# Altium footprint library Maxim Sensors.PcbLib: 239 footprints (part 2 of 15)
Each footprint in its own frame and in the unit in brackets; x right, y up, seen from the top. Pads: shape width x height; smd on the part's side, far side on the other; paste and mask are expansions set on the pad; w line width, h text height; cw(c..) or ccw(c..) is an arc to the next point about the centre after c.
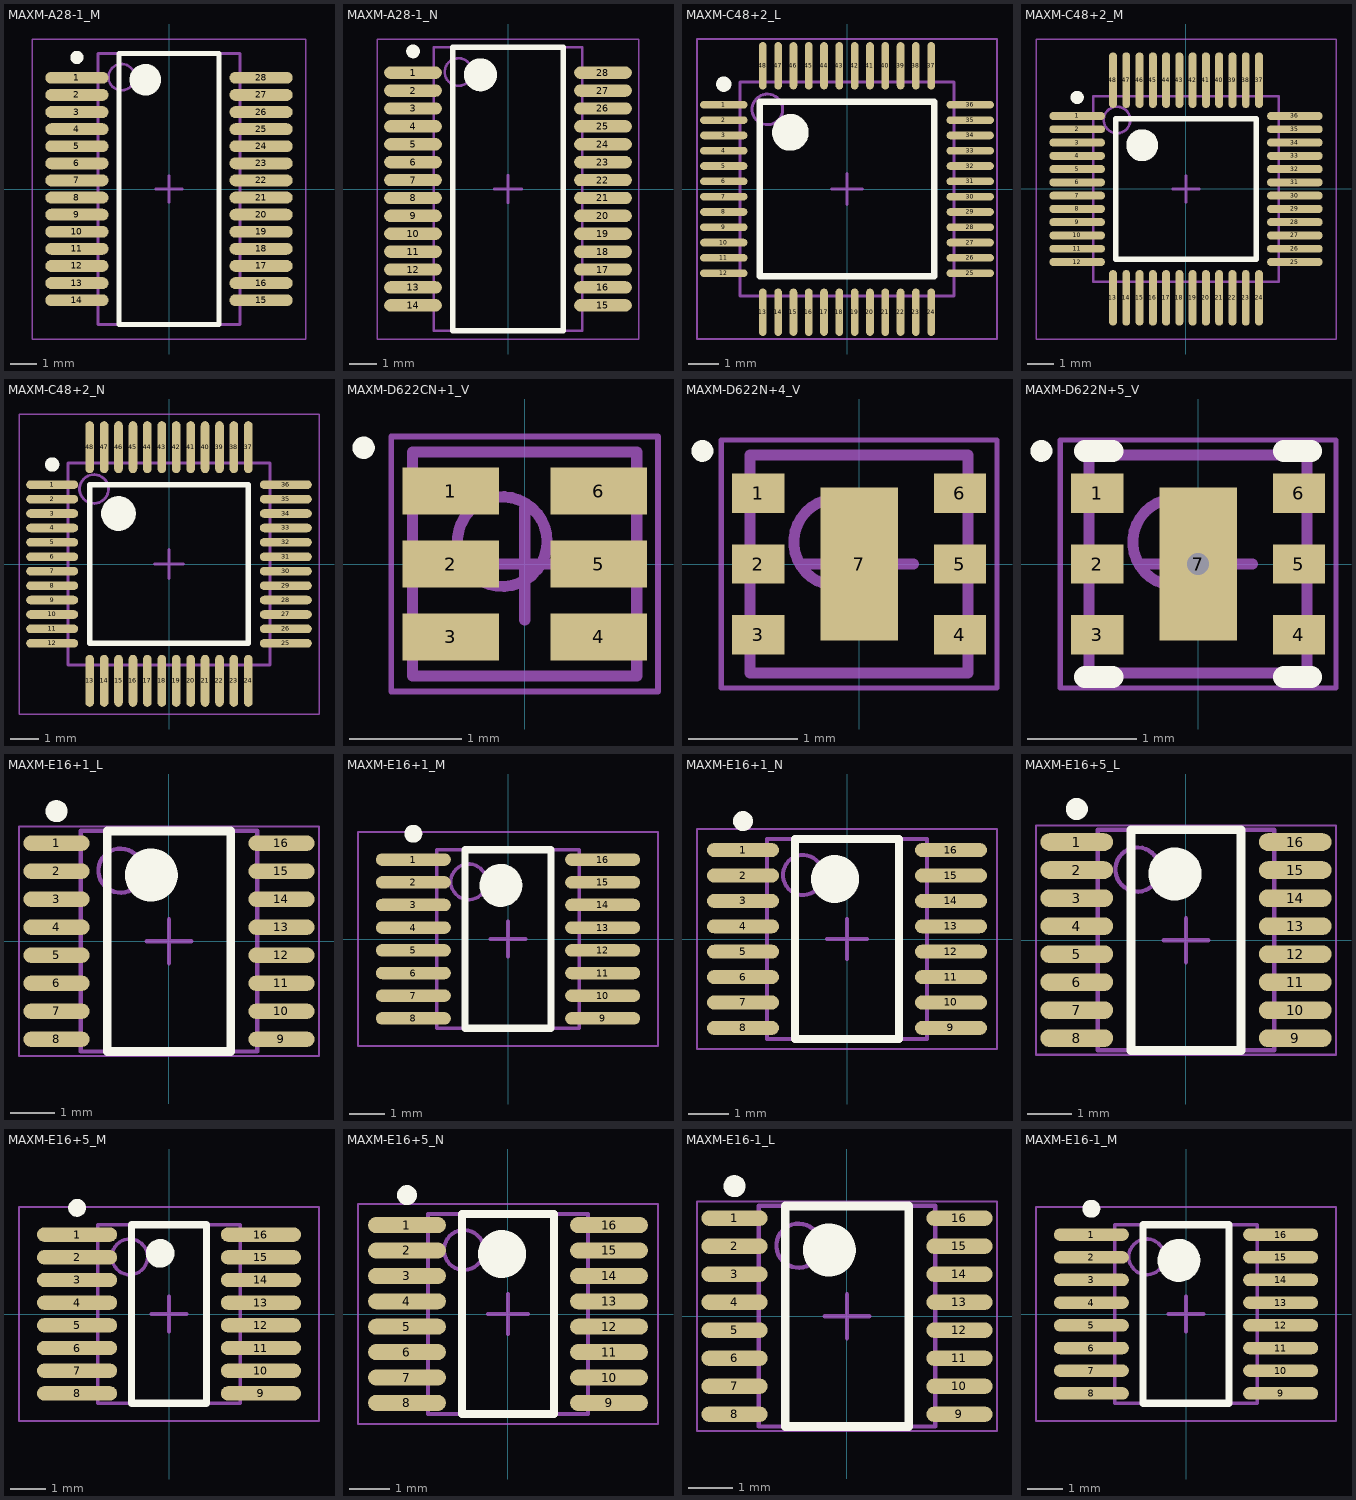
[diagram p1: the footprints below, top view; thin cyan lines are the x and y axes]

## MAXM-A28-1_M [mm] "SOP, 28-Leads, Body 10.2x5.29mm, Pitch 0.65mm, IPC Low Density"
height 1.99
pads (28):
  oval 2.4x0.45 smd: 1(-3.5,4.225) 2(-3.5,3.575) 3(-3.5,2.925) 4(-3.5,2.275) 5(-3.5,1.625) 6(-3.5,0.975) 7(-3.5,0.325) 8(-3.5,-0.325) 9(-3.5,-0.975) 10(-3.5,-1.625) 11(-3.5,-2.275) 12(-3.5,-2.925) 13(-3.5,-3.575) 14(-3.5,-4.225) 15(3.5,-4.225) 16(3.5,-3.575) 17(3.5,-2.925) 18(3.5,-2.275) 19(3.5,-1.625) 20(3.5,-0.975) 21(3.5,-0.325) 22(3.5,0.325) 23(3.5,0.975) 24(3.5,1.625) 25(3.5,2.275) 26(3.5,2.925) 27(3.5,3.575) 28(3.5,4.225)
Top Overlay:
  circle w0.25: c-3.5,5 r0.125
  circle w0.6: c-0.9,4.15 r0.3
  lines w0.2: -1.9,-5.15 -1.9,5.15 1.9,5.15 1.9,-5.15 -1.9,-5.15
Mechanical 13:
  circle w0.1: c-1.8,4.25 r0.5
  lines w0.1: -2.7,-5.15 -2.7,5.15 2.7,5.15 2.7,-5.15 -2.7,-5.15
Mechanical 15:
  lines w0.05: -5.2,-5.7 -5.2,5.7 5.2,5.7 5.2,-5.7 -5.2,-5.7
  lines w0.1: -0.5,0 0.5,0 ; 0,-0.5 0,0.5
3D body: height 1.99, standoff 0.05, extent -2.7,-5.15 2.7,5.15

## MAXM-A28-1_N [mm] "SOP, 28-Leads, Body 10.2x5.29mm, Pitch 0.65mm, IPC Medium Density"
height 1.99
pads (28):
  oval 2.1x0.45 smd: 1(-3.45,4.225) 2(-3.45,3.575) 3(-3.45,2.925) 4(-3.45,2.275) 5(-3.45,1.625) 6(-3.45,0.975) 7(-3.45,0.325) 8(-3.45,-0.325) 9(-3.45,-0.975) 10(-3.45,-1.625) 11(-3.45,-2.275) 12(-3.45,-2.925) 13(-3.45,-3.575) 14(-3.45,-4.225) 15(3.45,-4.225) 16(3.45,-3.575) 17(3.45,-2.925) 18(3.45,-2.275) 19(3.45,-1.625) 20(3.45,-0.975) 21(3.45,-0.325) 22(3.45,0.325) 23(3.45,0.975) 24(3.45,1.625) 25(3.45,2.275) 26(3.45,2.925) 27(3.45,3.575) 28(3.45,4.225)
Top Overlay:
  circle w0.25: c-3.45,5 r0.125
  circle w0.6: c-1,4.15 r0.3
  lines w0.2: -2,-5.15 -2,5.15 2,5.15 2,-5.15 -2,-5.15
Mechanical 13:
  circle w0.1: c-1.8,4.25 r0.5
  lines w0.1: -2.7,-5.15 -2.7,5.15 2.7,5.15 2.7,-5.15 -2.7,-5.15
Mechanical 15:
  lines w0.05: -4.75,-5.45 -4.75,5.45 4.75,5.45 4.75,-5.45 -4.75,-5.45
  lines w0.1: -0.5,0 0.5,0 ; 0,-0.5 0,0.5
3D body: height 1.99, standoff 0.05, extent -2.7,-5.15 2.7,5.15

## MAXM-C48+2_L [mm] "QFP, 48-Leads, Body 7x7mm, Pitch 0.5mm, IPC High Density"
height 1.6
pads (48):
  oval 1.55x0.25 smd: 1(-4.025,2.75) 2(-4.025,2.25) 3(-4.025,1.75) 4(-4.025,1.25) 5(-4.025,0.75) 6(-4.025,0.25) 7(-4.025,-0.25) 8(-4.025,-0.75) 9(-4.025,-1.25) 10(-4.025,-1.75) 11(-4.025,-2.25) 12(-4.025,-2.75) 25(4.025,-2.75) 26(4.025,-2.25) 27(4.025,-1.75) 28(4.025,-1.25) 29(4.025,-0.75) 30(4.025,-0.25) 31(4.025,0.25) 32(4.025,0.75) 33(4.025,1.25) 34(4.025,1.75) 35(4.025,2.25) 36(4.025,2.75)
  oval 0.25x1.55 smd: 13(-2.75,-4.025) 14(-2.25,-4.025) 15(-1.75,-4.025) 16(-1.25,-4.025) 17(-0.75,-4.025) 18(-0.25,-4.025) 19(0.25,-4.025) 20(0.75,-4.025) 21(1.25,-4.025) 22(1.75,-4.025) 23(2.25,-4.025) 24(2.75,-4.025) 37(2.75,4.025) 38(2.25,4.025) 39(1.75,4.025) 40(1.25,4.025) 41(0.75,4.025) 42(0.25,4.025) 43(-0.25,4.025) 44(-0.75,4.025) 45(-1.25,4.025) 46(-1.75,4.025) 47(-2.25,4.025) 48(-2.75,4.025)
Top Overlay:
  circle w0.6: c-1.85,1.85 r0.3
  circle w0.25: c-4.025,3.425 r0.125
  lines w0.2: -2.85,-2.85 2.85,-2.85 2.85,2.85 -2.85,2.85 -2.85,-2.85
Mechanical 13:
  circle w0.1: c-2.6,2.6 r0.5
  lines w0.1: -3.5,-3.5 3.5,-3.5 3.5,3.5 -3.5,3.5 -3.5,-3.5
Mechanical 15:
  lines w0.05: -4.9,-4.9 4.9,-4.9 4.9,4.9 -4.9,4.9 -4.9,-4.9
  lines w0.1: -0.5,0 0.5,0 ; 0,-0.5 0,0.5
3D body: height 1.6, standoff 0.05, extent -3.5,-3.5 3.5,3.5

## MAXM-C48+2_M [mm] "QFP, 48-Leads, Body 7x7mm, Pitch 0.5mm, IPC Low Density"
height 1.6
pads (48):
  oval 2.1x0.3 smd: 1(-4.1,2.75) 2(-4.1,2.25) 3(-4.1,1.75) 4(-4.1,1.25) 5(-4.1,0.75) 6(-4.1,0.25) 7(-4.1,-0.25) 8(-4.1,-0.75) 9(-4.1,-1.25) 10(-4.1,-1.75) 11(-4.1,-2.25) 12(-4.1,-2.75) 25(4.1,-2.75) 26(4.1,-2.25) 27(4.1,-1.75) 28(4.1,-1.25) 29(4.1,-0.75) 30(4.1,-0.25) 31(4.1,0.25) 32(4.1,0.75) 33(4.1,1.25) 34(4.1,1.75) 35(4.1,2.25) 36(4.1,2.75)
  oval 0.3x2.1 smd: 13(-2.75,-4.1) 14(-2.25,-4.1) 15(-1.75,-4.1) 16(-1.25,-4.1) 17(-0.75,-4.1) 18(-0.25,-4.1) 19(0.25,-4.1) 20(0.75,-4.1) 21(1.25,-4.1) 22(1.75,-4.1) 23(2.25,-4.1) 24(2.75,-4.1) 37(2.75,4.1) 38(2.25,4.1) 39(1.75,4.1) 40(1.25,4.1) 41(0.75,4.1) 42(0.25,4.1) 43(-0.25,4.1) 44(-0.75,4.1) 45(-1.25,4.1) 46(-1.75,4.1) 47(-2.25,4.1) 48(-2.75,4.1)
Top Overlay:
  circle w0.6: c-1.65,1.65 r0.3
  circle w0.25: c-4.1,3.45 r0.125
  lines w0.2: -2.65,-2.65 2.65,-2.65 2.65,2.65 -2.65,2.65 -2.65,-2.65
Mechanical 13:
  circle w0.1: c-2.6,2.6 r0.5
  lines w0.1: -3.5,-3.5 3.5,-3.5 3.5,3.5 -3.5,3.5 -3.5,-3.5
Mechanical 15:
  lines w0.05: -5.65,-5.65 5.65,-5.65 5.65,5.65 -5.65,5.65 -5.65,-5.65
  lines w0.1: -0.5,0 0.5,0 ; 0,-0.5 0,0.5
3D body: height 1.6, standoff 0.05, extent -3.5,-3.5 3.5,3.5

## MAXM-C48+2_N [mm] "QFP, 48-Leads, Body 7x7mm, Pitch 0.5mm, IPC Medium Density"
height 1.6
pads (48):
  oval 1.8x0.3 smd: 1(-4.05,2.75) 2(-4.05,2.25) 3(-4.05,1.75) 4(-4.05,1.25) 5(-4.05,0.75) 6(-4.05,0.25) 7(-4.05,-0.25) 8(-4.05,-0.75) 9(-4.05,-1.25) 10(-4.05,-1.75) 11(-4.05,-2.25) 12(-4.05,-2.75) 25(4.05,-2.75) 26(4.05,-2.25) 27(4.05,-1.75) 28(4.05,-1.25) 29(4.05,-0.75) 30(4.05,-0.25) 31(4.05,0.25) 32(4.05,0.75) 33(4.05,1.25) 34(4.05,1.75) 35(4.05,2.25) 36(4.05,2.75)
  oval 0.3x1.8 smd: 13(-2.75,-4.05) 14(-2.25,-4.05) 15(-1.75,-4.05) 16(-1.25,-4.05) 17(-0.75,-4.05) 18(-0.25,-4.05) 19(0.25,-4.05) 20(0.75,-4.05) 21(1.25,-4.05) 22(1.75,-4.05) 23(2.25,-4.05) 24(2.75,-4.05) 37(2.75,4.05) 38(2.25,4.05) 39(1.75,4.05) 40(1.25,4.05) 41(0.75,4.05) 42(0.25,4.05) 43(-0.25,4.05) 44(-0.75,4.05) 45(-1.25,4.05) 46(-1.75,4.05) 47(-2.25,4.05) 48(-2.75,4.05)
Top Overlay:
  circle w0.6: c-1.75,1.75 r0.3
  circle w0.25: c-4.05,3.45 r0.125
  lines w0.2: -2.75,-2.75 2.75,-2.75 2.75,2.75 -2.75,2.75 -2.75,-2.75
Mechanical 13:
  circle w0.1: c-2.6,2.6 r0.5
  lines w0.1: -3.5,-3.5 3.5,-3.5 3.5,3.5 -3.5,3.5 -3.5,-3.5
Mechanical 15:
  lines w0.05: -5.2,-5.2 5.2,-5.2 5.2,5.2 -5.2,5.2 -5.2,-5.2
  lines w0.1: -0.5,0 0.5,0 ; 0,-0.5 0,0.5
3D body: height 1.6, standoff 0.05, extent -3.5,-3.5 3.5,3.5

## MAXM-D622CN+1_V [mm] "SON, 6-Leads, Body 2x2mm, Pitch 0.65mm"
height 0.65
pads (6):
  rect 0.86x0.42 smd mask+0.102: 1(-0.66,0.65) 2(-0.66,0) 3(-0.66,-0.65) 4(0.66,-0.65) 5(0.66,0)
  rect 0.86x0.42 smd paste+0 mask+0.102: 6(0.66,0.65)
Top Overlay:
  circle w0.1: c-1.438,1.038 r0.05
Mechanical 13:
  circle w0.1: c-0.2,0.2 r0.4
  lines w0.1: -1,-1 1,-1 1,1 -1,1 -1,-1
Mechanical 15:
  lines w0.05: -1.19,-1.137 1.19,-1.137 1.19,1.138 -1.19,1.138 -1.19,-1.137
  lines w0.1: -0.5,0 0.5,0 ; 0,-0.5 0,0.5
3D body: height 0.65, standoff 0, extent -1,-1 1,1

## MAXM-D622N+4_V [mm] "SON, 6-Leads, Body 2x2mm, Pitch 0.65mm, Thermal Pad 0.65x1.35mm"
height 0.65
pads (7):
  rect 0.48x0.36 smd: 1(-0.925,0.65) 2(-0.925,0) 3(-0.925,-0.65) 4(0.925,-0.65) 5(0.925,0) 6(0.925,0.65)
  rect 0.71x1.4 smd: 7(0,0)
Top Overlay:
  circle w0.1: c-1.438,1.038 r0.05
Mechanical 13:
  circle w0.1: c-0.2,0.2 r0.4
  lines w0.1: -1,-1 1,-1 1,1 -1,1 -1,-1
Mechanical 15:
  lines w0.05: -1.265,-1.137 1.265,-1.137 1.265,1.138 -1.265,1.138 -1.265,-1.137
  lines w0.1: -0.5,0 0.5,0 ; 0,-0.5 0,0.5
3D body: height 0.65, standoff 0, extent -1,-1 1,1

## MAXM-D622N+5_V [mm] "SON, 6-Leads, Body 2x2mm, Pitch 0.65mm, Thermal Pad 1.35X0.65mm"
height 0.65
pads (7):
  rect 0.48x0.36 smd: 1(-0.925,0.65) 2(-0.925,0) 3(-0.925,-0.65) 4(0.925,-0.65) 5(0.925,0) 6(0.925,0.65)
  rect 0.71x1.4 smd: 7(0,0)
via 0,0 diameter 0.5 hole 0.2
Top Overlay:
  circle w0.1: c-1.438,1.038 r0.05
  lines w0.2: -1.037,-1.037 -0.785,-1.037 ; -1.037,1.038 -0.785,1.038 ; 0.785,-1.037 1.038,-1.037 ; 0.785,1.038 1.038,1.038
Mechanical 13:
  circle w0.1: c-0.2,0.2 r0.4
  lines w0.1: -1,-1 1,-1 1,1 -1,1 -1,-1
Mechanical 15:
  lines w0.05: -1.265,-1.137 1.265,-1.137 1.265,1.138 -1.265,1.138 -1.265,-1.137
  lines w0.1: -0.5,0 0.5,0 ; 0,-0.5 0,0.5
3D body: height 0.65, standoff 0, extent -1,-1 1,1

## MAXM-E16+1_L [mm] "SOP, 16-Leads, Body 4.9x3.89mm, Pitch 0.635mm, IPC High Density"
height 1.75
pads (16):
  oval 1.5x0.35 smd: 1(-2.55,2.222) 2(-2.55,1.587) 3(-2.55,0.953) 4(-2.55,0.318) 5(-2.55,-0.318) 6(-2.55,-0.953) 7(-2.55,-1.587) 8(-2.55,-2.222) 9(2.55,-2.222) 10(2.55,-1.587) 11(2.55,-0.953) 12(2.55,-0.318) 13(2.55,0.318) 14(2.55,0.953) 15(2.55,1.587) 16(2.55,2.222)
Top Overlay:
  circle w0.25: c-2.55,2.947 r0.125
  circle w0.6: c-0.4,1.5 r0.3
  lines w0.2: -1.4,-2.5 -1.4,2.5 1.4,2.5 1.4,-2.5 -1.4,-2.5
Mechanical 13:
  circle w0.1: c-1.1,1.6 r0.5
  lines w0.1: -2,-2.5 -2,2.5 2,2.5 2,-2.5 -2,-2.5
Mechanical 15:
  lines w0.05: -3.4,-2.6 -3.4,2.6 3.4,2.6 3.4,-2.6 -3.4,-2.6
  lines w0.1: -0.5,0 0.5,0 ; 0,-0.5 0,0.5
3D body: height 1.75, standoff 0.1, extent -2,-2.5 2,2.5

## MAXM-E16+1_M [mm] "SOP, 16-Leads, Body 4.9x3.89mm, Pitch 0.635mm, IPC Low Density"
height 1.75
pads (16):
  oval 2.1x0.35 smd: 1(-2.65,2.222) 2(-2.65,1.587) 3(-2.65,0.953) 4(-2.65,0.318) 5(-2.65,-0.318) 6(-2.65,-0.953) 7(-2.65,-1.587) 8(-2.65,-2.222) 9(2.65,-2.222) 10(2.65,-1.587) 11(2.65,-0.953) 12(2.65,-0.318) 13(2.65,0.318) 14(2.65,0.953) 15(2.65,1.587) 16(2.65,2.222)
Top Overlay:
  circle w0.25: c-2.65,2.947 r0.125
  circle w0.6: c-0.2,1.5 r0.3
  lines w0.2: -1.2,-2.5 -1.2,2.5 1.2,2.5 1.2,-2.5 -1.2,-2.5
Mechanical 13:
  circle w0.1: c-1.1,1.6 r0.5
  lines w0.1: -2,-2.5 -2,2.5 2,2.5 2,-2.5 -2,-2.5
Mechanical 15:
  lines w0.05: -4.2,-3 -4.2,3 4.2,3 4.2,-3 -4.2,-3
  lines w0.1: -0.5,0 0.5,0 ; 0,-0.5 0,0.5
3D body: height 1.75, standoff 0.1, extent -2,-2.5 2,2.5

## MAXM-E16+1_N [mm] "SOP, 16-Leads, Body 4.9x3.89mm, Pitch 0.635mm, IPC Medium Density"
height 1.75
pads (16):
  oval 1.8x0.35 smd: 1(-2.6,2.222) 2(-2.6,1.587) 3(-2.6,0.953) 4(-2.6,0.318) 5(-2.6,-0.318) 6(-2.6,-0.953) 7(-2.6,-1.587) 8(-2.6,-2.222) 9(2.6,-2.222) 10(2.6,-1.587) 11(2.6,-0.953) 12(2.6,-0.318) 13(2.6,0.318) 14(2.6,0.953) 15(2.6,1.587) 16(2.6,2.222)
Top Overlay:
  circle w0.25: c-2.6,2.947 r0.125
  circle w0.6: c-0.3,1.5 r0.3
  lines w0.2: -1.3,-2.5 -1.3,2.5 1.3,2.5 1.3,-2.5 -1.3,-2.5
Mechanical 13:
  circle w0.1: c-1.1,1.6 r0.5
  lines w0.1: -2,-2.5 -2,2.5 2,2.5 2,-2.5 -2,-2.5
Mechanical 15:
  lines w0.05: -3.75,-2.75 -3.75,2.75 3.75,2.75 3.75,-2.75 -3.75,-2.75
  lines w0.1: -0.5,0 0.5,0 ; 0,-0.5 0,0.5
3D body: height 1.75, standoff 0.1, extent -2,-2.5 2,2.5

## MAXM-E16+5_L [mm] "SOP, 16-Leads, Body 4.89x3.9mm, Pitch 0.635mm, IPC High Density"
height 1.75
pads (16):
  oval 1.65x0.4 smd: 1(-2.475,2.222) 2(-2.475,1.587) 3(-2.475,0.953) 4(-2.475,0.318) 5(-2.475,-0.318) 6(-2.475,-0.953) 7(-2.475,-1.587) 8(-2.475,-2.222) 9(2.475,-2.222) 10(2.475,-1.587) 11(2.475,-0.953) 12(2.475,-0.318) 13(2.475,0.318) 14(2.475,0.953) 15(2.475,1.587) 16(2.475,2.222)
Top Overlay:
  circle w0.6: c-0.25,1.5 r0.3
  circle w0.25: c-2.475,2.973 r0.125
  lines w0.2: -1.25,-2.5 1.25,-2.5 1.25,2.5 -1.25,2.5 -1.25,-2.5
Mechanical 13:
  circle w0.1: c-1.1,1.6 r0.5
  lines w0.1: -2,-2.5 2,-2.5 2,2.5 -2,2.5 -2,-2.5
Mechanical 15:
  lines w0.05: -3.4,-2.6 3.4,-2.6 3.4,2.6 -3.4,2.6 -3.4,-2.6
  lines w0.1: -0.5,0 0.5,0 ; 0,-0.5 0,0.5
3D body: height 1.75, standoff 0.1, extent -2,-2.5 2,2.5

## MAXM-E16+5_M [mm] "SOP, 16-Leads, Body 4.89x3.9mm, Pitch 0.635mm, IPC Low Density"
height 1.75
pads (16):
  oval 2.25x0.4 smd: 1(-2.575,2.222) 2(-2.575,1.587) 3(-2.575,0.953) 4(-2.575,0.318) 5(-2.575,-0.318) 6(-2.575,-0.953) 7(-2.575,-1.587) 8(-2.575,-2.222) 9(2.575,-2.222) 10(2.575,-1.587) 11(2.575,-0.953) 12(2.575,-0.318) 13(2.575,0.318) 14(2.575,0.953) 15(2.575,1.587) 16(2.575,2.222)
Top Overlay:
  circle w0.25: c-2.575,2.973 r0.125
  circle w0.4: c-0.25,1.7 r0.2
  lines w0.2: -1.05,-2.5 -1.05,2.5 1.05,2.5 1.05,-2.5 -1.05,-2.5
Mechanical 13:
  circle w0.1: c-1.1,1.6 r0.5
  lines w0.1: -2,-2.5 -2,2.5 2,2.5 2,-2.5 -2,-2.5
Mechanical 15:
  lines w0.05: -4.2,-3 -4.2,3 4.2,3 4.2,-3 -4.2,-3
  lines w0.1: -0.5,0 0.5,0 ; 0,-0.5 0,0.5
3D body: height 1.75, standoff 0.1, extent -2,-2.5 2,2.5

## MAXM-E16+5_N [mm] "SOP, 16-Leads, Body 4.89x3.9mm, Pitch 0.635mm, IPC Medium Density"
height 1.75
pads (16):
  oval 1.95x0.4 smd: 1(-2.525,2.222) 2(-2.525,1.587) 3(-2.525,0.953) 4(-2.525,0.318) 5(-2.525,-0.318) 6(-2.525,-0.953) 7(-2.525,-1.587) 8(-2.525,-2.222) 9(2.525,-2.222) 10(2.525,-1.587) 11(2.525,-0.953) 12(2.525,-0.318) 13(2.525,0.318) 14(2.525,0.953) 15(2.525,1.587) 16(2.525,2.222)
Top Overlay:
  circle w0.6: c-0.15,1.5 r0.3
  circle w0.25: c-2.525,2.973 r0.125
  lines w0.2: -1.15,-2.5 1.15,-2.5 1.15,2.5 -1.15,2.5 -1.15,-2.5
Mechanical 13:
  circle w0.1: c-1.1,1.6 r0.5
  lines w0.1: -2,-2.5 2,-2.5 2,2.5 -2,2.5 -2,-2.5
Mechanical 15:
  lines w0.05: -3.75,-2.75 3.75,-2.75 3.75,2.75 -3.75,2.75 -3.75,-2.75
  lines w0.1: -0.5,0 0.5,0 ; 0,-0.5 0,0.5
3D body: height 1.75, standoff 0.1, extent -2,-2.5 2,2.5

## MAXM-E16-1_L [mm] "SOP, 16-Leads, Body 4.9x3.89mm, Pitch 0.635mm, IPC High Density"
height 1.75
pads (16):
  oval 1.5x0.35 smd: 1(-2.55,2.222) 2(-2.55,1.587) 3(-2.55,0.953) 4(-2.55,0.318) 5(-2.55,-0.318) 6(-2.55,-0.953) 7(-2.55,-1.587) 8(-2.55,-2.222) 9(2.55,-2.222) 10(2.55,-1.587) 11(2.55,-0.953) 12(2.55,-0.318) 13(2.55,0.318) 14(2.55,0.953) 15(2.55,1.587) 16(2.55,2.222)
Top Overlay:
  circle w0.6: c-0.4,1.5 r0.3
  circle w0.25: c-2.55,2.947 r0.125
  lines w0.2: -1.4,-2.5 1.4,-2.5 1.4,2.5 -1.4,2.5 -1.4,-2.5
Mechanical 13:
  circle w0.1: c-1.1,1.6 r0.5
  lines w0.1: -2,-2.5 2,-2.5 2,2.5 -2,2.5 -2,-2.5
Mechanical 15:
  lines w0.05: -3.4,-2.6 3.4,-2.6 3.4,2.6 -3.4,2.6 -3.4,-2.6
  lines w0.1: -0.5,0 0.5,0 ; 0,-0.5 0,0.5
3D body: height 1.75, standoff 0.1, extent -2,-2.5 2,2.5

## MAXM-E16-1_M [mm] "SOP, 16-Leads, Body 4.9x3.89mm, Pitch 0.635mm, IPC Low Density"
height 1.75
pads (16):
  oval 2.1x0.35 smd: 1(-2.65,2.222) 2(-2.65,1.587) 3(-2.65,0.953) 4(-2.65,0.318) 5(-2.65,-0.318) 6(-2.65,-0.953) 7(-2.65,-1.587) 8(-2.65,-2.222) 9(2.65,-2.222) 10(2.65,-1.587) 11(2.65,-0.953) 12(2.65,-0.318) 13(2.65,0.318) 14(2.65,0.953) 15(2.65,1.587) 16(2.65,2.222)
Top Overlay:
  circle w0.6: c-0.2,1.5 r0.3
  circle w0.25: c-2.65,2.947 r0.125
  lines w0.2: -1.2,-2.5 1.2,-2.5 1.2,2.5 -1.2,2.5 -1.2,-2.5
Mechanical 13:
  circle w0.1: c-1.1,1.6 r0.5
  lines w0.1: -2,-2.5 2,-2.5 2,2.5 -2,2.5 -2,-2.5
Mechanical 15:
  lines w0.05: -4.2,-3 4.2,-3 4.2,3 -4.2,3 -4.2,-3
  lines w0.1: -0.5,0 0.5,0 ; 0,-0.5 0,0.5
3D body: height 1.75, standoff 0.1, extent -2,-2.5 2,2.5